# Altium integrated library PCIE to MXM Riser Basic.IntLib: 11 symbols
Pins are listed as number, name and electrical type; pins without a type are passive.

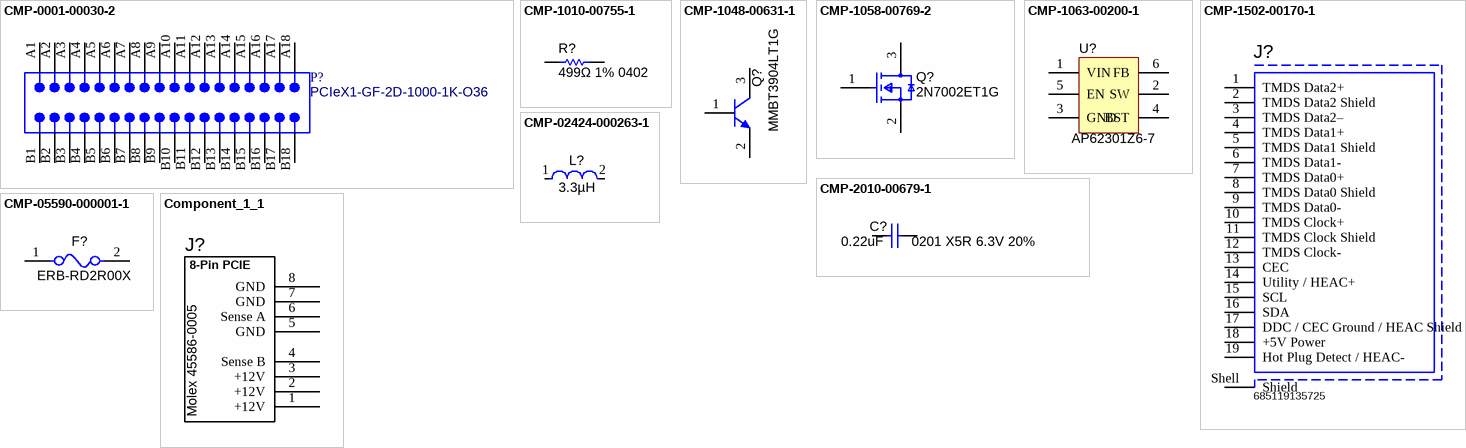
[diagram p0: symbols CMP-0001-00030-2 to Component_1_1]

## CMP-0001-00030-2
designator P?, comment PCIeX1-GF-2D-1000-1K-O36  (no BOM)
Golden finger, PCIeX1, Dual, Opposite, Pitch 1mm, 36-Position; Mating Connector: Molex-87715-9006; Package Reference: PCIeX1-GF-2D-1000-1K-O36; ClassName: Edge Connector; Publisher: Altium; Datasheet Version: rev2.0, Apr-2007
footprint PCIeX1-GF-2D-1000-1K-O36 (Golden finger, PCIeX1, Dual, Opposite, Pitch 1mm, 36-Position)
pins: A1, A2, A3, A4, A5, A6, A7, A8, A9, A10, A11, A12, A13, A14, A15, A16, A17, A18, B1, B2, B3, B4, B5, B6, B7, B8, B9, B10, B11, B12, B13, B14, B15, B16, B17, B18

## CMP-1010-00755-1
designator R?, comment 499Ω 1% 0402
1M 0.05W 1% 0201 (0603 Metric)  SMD; Manufacturer: Yageo; Manufacturer Part Number: RC0201FR-071ML; Manufacturer: Bourns; Manufacturer Part Number: CR0201-FW-1004GLF; Manufacturer: Panasonic; Manufacturer Part Number: ERJ-1GNF1004C; Manufacturer: Rohm; Manufacturer Part Number: MCR006YZPF1004; Manufacturer: Vishay Dale; Manufacturer Part Number: CRCW02011M00FKED; Case-Metric: 0603; Value: 1000000.00 Ohm; Case-EIA: 0201; Technology: SMT; Tolerance: 1 %; Power: 0.05 W
footprint RESC0201(0603)_L (Chip Resistor, Body 0.6x0.3mm, IPC High Density)
footprint RESC0201(0603)_M (Chip Resistor, Body 0.6x0.3mm, IPC Low Density)
footprint RESC0201(0603)_N (Chip Resistor, Body 0.6x0.3mm, IPC Medium Density)
pins: 1, 2
1 alternate drawing of the same symbol

## CMP-1048-00631-1
designator Q?, comment MMBT3904LT1G
General Purpose Transistor, NPN Silicon, 3-Pin SOT-23, Pb-Free, Tape and Reel; Manufacturer: On Semiconductor; IC Continuous (A): 0.2; fT Min (MHz): 300; ComponentLink2Description: Datasheet; Polarity: NPN; PackageDescription: 3-Pin Small Outline Transistor, Body 2.92 x 1.3 mm, Pitch 0.95 mm; ComponentLink2URL: http://www.onsemi.cn/pub_link/Collateral/MMBT3904LT1-D.PDF; DatasheetVersion: Rev. 12; Mounting Technology: Surface Mount; PartNumber: MMBT3904LT1G; ComponentLink1URL: http://www.onsemi.com/; ComponentLink3Description: Package Specification; ComponentLink1Description: Manufacturer URL; PackageVersion: Rev. AP, 11/2009; PackageReference: SOT-23-3-318-08; Packing: Tape and Reel; ComponentLink3URL: http://www.onsemi.cn/pub_link/Collateral/318-08.PDF; RoHS: TRUE; Manufacturer: ON Semiconductor; Manufacturer Part Number: MMBT3904LT1G
footprint ONSC-SOT-23-3-318-08_V (SOT23, 3-Leads, Body 2.92x1.3mm, Pitch 0.95mm)
pins: 1 B, 2 E, 3 C

## CMP-1058-00769-2
designator Q?, comment 2N7002ET1G
MOSFET N-CH 60V 260MA SOT-23; Manufacturer: ON Semiconductor; On-State Resistance: 2.5R; Turn-Off Delay Time: 4.8ns; Nominal Vgs: 1V; Element Configuration: Single; Rise Time: 1.2ns; Input Capacitance: 26.7pF; Number of Elements: 1; Turn-On Delay Time: 1.7ns; Gate to Source Voltage (Vgs): 20V; Max Power Dissipation: 300mW; Drain to Source Breakdown Voltage: 60V; Max Operating Temperature: 150°C; REACH SVHC: No SVHC; Case/Package: SOT-23-3; Lead Free: Lead Free; Length: 2.9mm; Height: 0.94mm; Package Quantity: 3000; Min Operating Temperature: -55°C; Radiation Hardening: No; Packaging: Tape and Reel; Fall Time: 1.2ns; Drain to Source Resistance: 2.5R; Halogen Free: Halogen Free; Threshold Voltage: 1V; Number of Pins: 3; Continuous Drain Current (ID): 260mA; Rds On Max: 2.5R; Power Dissipation: 300mW; Width: 1.3mm; Manufacturer Part Number: 2N7002ET1G
footprint FP-318-08-IPC_A
footprint FP-318-08-MFG
footprint FP-318-08-IPC_C
footprint FP-318-08-IPC_B
pins: 1 Gate, 2 Source, 3 Drain

## CMP-1063-00200-1
designator U?, comment AP62301Z6-7
Transient Voltage Suppressor, ESD Protection Diodes with Low Clamping Voltage, 6-Pin SOT-563, Pb-Free, Tape and Reel; PartNumber: NUP4114UPXV6T1G; Manufacturer: On Semiconductor; V(BR) Min (V): 5.5; Direction: Unidirectional; Number of Lines: 4; IR Max (uA): 1; PackageVersion: Rev. F, 04/2005; VRWM Max (V): 5.5; PackageReference: SOT-563-6-463A-01; ComponentLink3URL: http://www.onsemi.cn/pub_link/Collateral/463A-01.PDF; ComponentLink2URL: http://www.onsemi.com/pub_link/Collateral/NUP4114-D.PDF; PackageDescription: 6-Pin Small Outline Transistor, Body 1.6 x 1.2 mm, Pitch 0.5 mm; Packing: Tape and Reel; ComponentLink1Description: Manufacturer URL; ComponentLink3Description: Package Specification; RoHS: Pb-Free; Mounting Technology: Surface Mount; DatasheetVersion: Rev. 2; ComponentLink2Description: Datasheet; ComponentLink1URL: http://www.onsemi.com/; Manufacturer: ON Semiconductor; Manufacturer Part Number: NUP4114UPXV6T1G
footprint ONSC-SOT-563-6-463A-01_V (SOT23, 6-Leads, Body 1.6x1.2mm, Pitch 0.5mm)
pins: 1 VIN, 2 SW, 3 GND, 4 BST, 5 EN, 6 FB

## CMP-1502-00170-1
designator J?, comment 685119135725
HDMI Type A Receptacle WR-COM, Horizontal, SMT, with M3 Screw Flange; Manufacturer: Wurth Elektronik; Manufacturer: Wurth Electronics; Working Voltage: 40VAC; Rated Current: 0.5A; Contact Resistance: 30mOhm; Gender: Receptacle; Publisher: WurthElektronik; Connector Type: HDMITypeA; Manufacturer URL: http://www.we-online.de; Datasheet URL: https://katalog.we-online.de/em/datasheet/685119135725.pdf; Packaging: Tray; Operating Temperature: -20to85degC; Package Reference: 685119135725; Mounting Technology: SMT; Orientation: Horizontal; Part Number: 685119135725; Manufacturer Part Number: 685119135725
footprint 685119135725 (HDMI SMT Horizontal with M3 screw)
pins: 1 TMDS Data2+, 2 TMDS Data2 Shield, 3 TMDS Data2–, 4 TMDS Data1+, 5 TMDS Data1 Shield, 6 TMDS Data1-, 7 TMDS Data0+, 8 TMDS Data0 Shield, 9 TMDS Data0-, 10 TMDS Clock+, 11 TMDS Clock Shield, 12 TMDS Clock-, 13 CEC, 14 Utility / HEAC+, 15 SCL, 16 SDA, 17 DDC / CEC Ground / HEAC Shield, 18 +5V Power, 19 Hot Plug Detect / HEAC-, Shell Shield

## CMP-2010-00679-1
designator C?, comment 0.22uF       0201 X5R 6.3V 20%
Manufacturer: Samsung; Part Number: CL03A224MQ3NNNC; Manufacturer Part Number: CL03A224MQ3NNNC
footprint CAPC0603X33X15NL03T05 (Chip Capacitor, 2-Leads, Body 0.60x0.30mm, IPC Medium Density)
footprint CAPC0603X33X15LL03T05 (Chip Capacitor, 2-Leads, Body 0.60x0.30mm, IPC High Density)
footprint CAPC0603X33X15ML03T05 (Chip Capacitor, 2-Leads, Body 0.60x0.30mm, IPC Low Density)
pins: 1, 2
1 alternate drawing of the same symbol

## CMP-02424-000263-1
designator L?, comment 3.3µH
Commercial Inductors, High Saturation Series 3.3uH 10A 14.4mΩ 20%; Manufacturer: Vishay Dale; Manufacturer Part Number: IHLP4040DZER3R3M01; Test Frequency: 100kHz; DC Resistance (DCR): 14.4mR; Shielding: Shielded; Max DC Current: 18.6A; Core Material: Metal; Self Resonant Frequency: 5MHz; Width: 0.405inch; RMS Current (Irms): 10A; Weight: 0.070548oz; Number of Pins: 4040; Height: 4mm; Tolerance: 20%; Contact Plating: Tin; Termination: SMD/SMT; Case Code (Imperial): 4040; Length: 0.43inch; Lead Free: Lead Free; Military Standard: Not; Depth: 10.3mm; Mount: Surface Mount; Radiation Hardening: No; Current Rating: 10A; Min Operating Temperature: -55°C; Height - Seated (Max): 0.157inch; Max Operating Temperature: 125°C; Inductance Tolerance: 20%; Packaging: Tape and Reel; Case/Package: 4040; Package Quantity: 500; Inductance: 3.3uH; Saturation Current: 18.6A
footprint FP-IHLP-4040DZ-FP_3_124x3-MFG
pins: 1, 2

## CMP-05590-000001-1
designator F?, comment ERB-RD2R00X
FUSE BOARD MOUNT 2A 32VDC 0402; Manufacturer: Panasonic Electronic Components; Manufacturer: Panasonic; Resistance: 53mΩ; Value: 53mΩ; Voltage Rating: 32V; Fuse Interrupt Dc Current: 35A; Fuse Blow Speed: Fast; Digikey Description: FUSE BOARD MOUNT 2A 32VDC 0402; ComponentLink2Description: Datasheet; Fuse Current: 2A; Device Class L2: Fuses; Category: Fuse; Octopart: https://octopart.com/erb-rd2r00x-panasonic-21220532; RoHS: TRUE; Device Class L1: Circuit Protection; Temperature Range High: +125°C; Height: 0.49mm; Device Class L3: unset; Max Fuse Dc Voltage: 32V; Automotive: No; Manufacturer Part Number: ERB-RD2R00X; Lead Free: Yes; Temperature Range Low: -40°C; Mouser Description: Surface Mount Fuses 2A 0402 micro chip; ComponentLink2URL: https://industrial.panasonic.com/cdbs/www-data/pdf/AFA0000/AFA0000C7.pdf; Temperature: -40°C to +125°C; Package: ERBRD
footprint FP-ERBRD-MFG
footprint FP-ERBRD-IPC_C
footprint FP-ERBRD-IPC_B
footprint FP-ERBRD-IPC_A
pins: 1, 2

## Component_1_1
designator J?, comment MOLEX 45586-0005  (value not drawn)
footprint Molex_45586-8-Pin-PWR
pins: 1 +12V (power), 2 +12V (power), 3 +12V (power), 4 Sense B (power), 5 GND (power), 6 Sense A (power), 7 GND (power), 8 GND (power)
text: 8-Pin PCIE; Molex 45586-0005

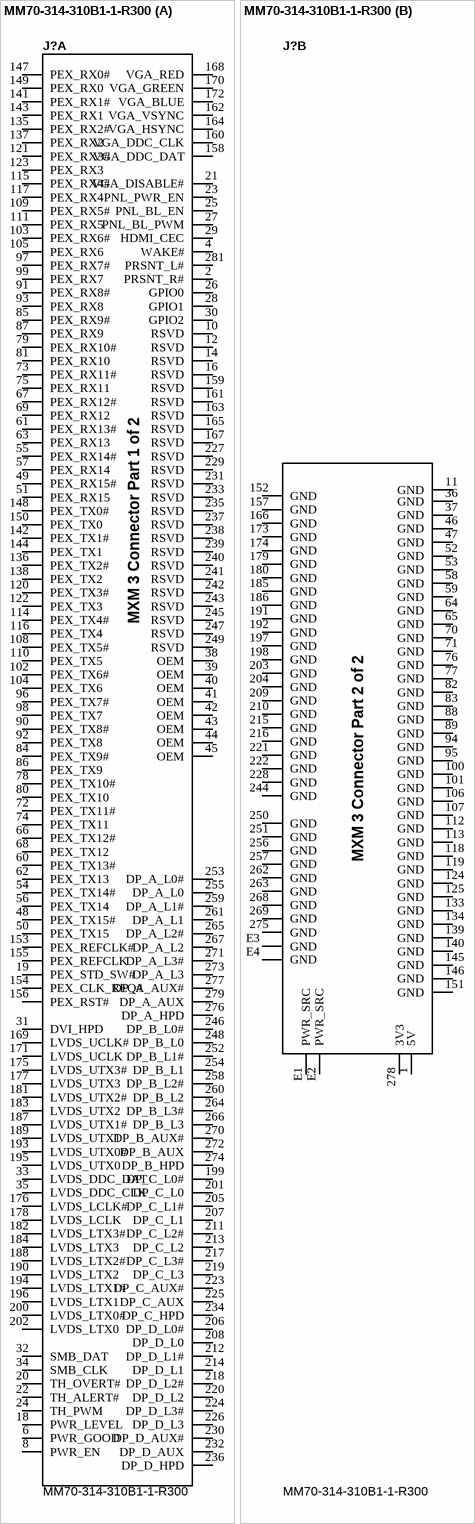
[diagram p1: symbol MM70-314-310B1-1-R300]

## MM70-314-310B1-1-R300
designator J?
314 Position Female Connector MXM 3.0 Gold 0.020 _0.50mm_ Black; MF: JAE Electronics; Package: None; Digi-Key_Part_Number: 670-2431-1-ND; Digi-Key_Purchase_URL: https://www.digikey.com/product-detail/en/jae-electronics/MM70-314-310B1-1-R300/670-2431-1-ND/2183605?utm_source=snapeda&utm_medium=aggregator&utm_campaign=symbol; Value: *; MP: MM70-314-310B1-1-R300; SnapEDA_Link: https://www.snapeda.com/parts/MM70-314-310B1-1-R300/JAE%20Electronics/view-part/553386/?ref=snap
footprint JAE_MM70-314-310B1-2-R300
part A pins: 2 PRSNT_R#, 4 WAKE#, 6 PWR_GOOD, 8 PWR_EN, 10 RSVD, 12 RSVD, 14 RSVD, 16 RSVD, 18 PWR_LEVEL, 19 PEX_STD_SW#, 20 TH_OVERT#, 21 VGA_DISABLE#, 22 TH_ALERT#, 23 PNL_PWR_EN, 24 TH_PWM, 25 PNL_BL_EN, 26 GPIO0, 27 PNL_BL_PWM, 28 GPIO1, 29 HDMI_CEC, 30 GPIO2, 31 DVI_HPD, 32 SMB_DAT, 33 LVDS_DDC_DAT, 34 SMB_CLK, 35 LVDS_DDC_CLK, 38 OEM, 39 OEM, 40 OEM, 41 OEM, 42 OEM, 43 OEM, 44 OEM, 45 OEM, 48 PEX_TX15#, 49 PEX_RX15#, 50 PEX_TX15, 51 PEX_RX15, 54 PEX_TX14#, 55 PEX_RX14#, 56 PEX_TX14, 57 PEX_RX14, 60 PEX_TX13#, 61 PEX_RX13#, 62 PEX_TX13, 63 PEX_RX13, 66 PEX_TX12#, 67 PEX_RX12#, 68 PEX_TX12, 69 PEX_RX12, 72 PEX_TX11#, 73 PEX_RX11#, 74 PEX_TX11, 75 PEX_RX11, 78 PEX_TX10#, 79 PEX_RX10#, 80 PEX_TX10, 81 PEX_RX10, 84 PEX_TX9#, 85 PEX_RX9#, 86 PEX_TX9, 87 PEX_RX9, 90 PEX_TX8#, 91 PEX_RX8#, 92 PEX_TX8, 93 PEX_RX8, 96 PEX_TX7#, 97 PEX_RX7#, 98 PEX_TX7, 99 PEX_RX7, 102 PEX_TX6#, 103 PEX_RX6#, 104 PEX_TX6, 105 PEX_RX6, 108 PEX_TX5#, 109 PEX_RX5#, 110 PEX_TX5, 111 PEX_RX5, 114 PEX_TX4#, 115 PEX_RX4#, 116 PEX_TX4, 117 PEX_RX4, 120 PEX_TX3#, 121 PEX_RX3#, 122 PEX_TX3, 123 PEX_RX3, 135 PEX_RX2#, 136 PEX_TX2#, 137 PEX_RX2, 138 PEX_TX2, 141 PEX_RX1#, 142 PEX_TX1#, 143 PEX_RX1, 144 PEX_TX1, 147 PEX_RX0#, 148 PEX_TX0#, 149 PEX_RX0, 150 PEX_TX0, 153 PEX_REFCLK#, 154 PEX_CLK_REQ#, 155 PEX_REFCLK, 156 PEX_RST#, 158 VGA_DDC_DAT, 159 RSVD, 160 VGA_DDC_CLK, 161 RSVD, 162 VGA_VSYNC, 163 RSVD, 164 VGA_HSYNC, 165 RSVD, 167 RSVD, 168 VGA_RED, 169 LVDS_UCLK#, 170 VGA_GREEN, 171 LVDS_UCLK, 172 VGA_BLUE, 175 LVDS_UTX3#, 176 LVDS_LCLK#, 177 LVDS_UTX3, 178 LVDS_LCLK, 181 LVDS_UTX2#, 182 LVDS_LTX3#, 183 LVDS_UTX2, 184 LVDS_LTX3, 187 LVDS_UTX1#, 188 LVDS_LTX2#, 189 LVDS_UTX1, 190 LVDS_LTX2, 193 LVDS_UTX0#, 194 LVDS_LTX1#, 195 LVDS_UTX0, 196 LVDS_LTX1, 199 DP_C_L0#, 200 LVDS_LTX0#, 201 DP_C_L0, 202 LVDS_LTX0, 205 DP_C_L1#, 206 DP_D_L0#, 207 DP_C_L1, 208 DP_D_L0, 211 DP_C_L2#, 212 DP_D_L1#, 213 DP_C_L2, 214 DP_D_L1, 217 DP_C_L3#, 218 DP_D_L2#, 219 DP_C_L3, 220 DP_D_L2, 223 DP_C_AUX#, 224 DP_D_L3#, 225 DP_C_AUX, 226 DP_D_L3, 227 RSVD, 229 RSVD, 230 DP_D_AUX#, 231 RSVD, 232 DP_D_AUX, 233 RSVD, 234 DP_C_HPD, 235 RSVD, 236 DP_D_HPD, 237 RSVD, 238 RSVD, 239 RSVD, 240 RSVD, 241 RSVD, 242 RSVD, 243 RSVD, 245 RSVD, 246 DP_B_L0#, 247 RSVD, 248 DP_B_L0, 249 RSVD, 252 DP_B_L1#, 253 DP_A_L0#, 254 DP_B_L1, 255 DP_A_L0, 258 DP_B_L2#, 259 DP_A_L1#, 260 DP_B_L2, 261 DP_A_L1, 264 DP_B_L3#, 265 DP_A_L2#, 266 DP_B_L3, 267 DP_A_L2, 270 DP_B_AUX#, 271 DP_A_L3#, 272 DP_B_AUX, 273 DP_A_L3, 274 DP_B_HPD, 276 DP_A_HPD, 277 DP_A_AUX#, 279 DP_A_AUX, 281 PRSNT_L#
part B pins: 1 5V, 11 GND, 36 GND, 37 GND, 46 GND, 47 GND, 52 GND, 53 GND, 58 GND, 59 GND, 64 GND, 65 GND, 70 GND, 71 GND, 76 GND, 77 GND, 82 GND, 83 GND, 88 GND, 89 GND, 94 GND, 95 GND, 100 GND, 101 GND, 106 GND, 107 GND, 112 GND, 113 GND, 118 GND, 119 GND, 124 GND, 125 GND, 133 GND, 134 GND, 139 GND, 140 GND, 145 GND, 146 GND, 151 GND, 152 GND, 157 GND, 166 GND, 173 GND, 174 GND, 179 GND, 180 GND, 185 GND, 186 GND, 191 GND, 192 GND, 197 GND, 198 GND, 203 GND, 204 GND, 209 GND, 210 GND, 215 GND, 216 GND, 221 GND, 222 GND, 228 GND, 244 GND, 250 GND, 251 GND, 256 GND, 257 GND, 262 GND, 263 GND, 268 GND, 269 GND, 275 GND, 278 3V3,  E3    GND,  E4    GND, E1 PWR_SRC, E2 PWR_SRC
part A text: MXM 3 Connector Part 1 of 2
part B text: MXM 3 Connector Part 2 of 2